# Altium footprint library T_Echo_lite.PcbLib: 21 footprints (part 1 of 2)
Each footprint in its own frame and in the unit in brackets; x right, y up, seen from the top. Pads: shape width x height; smd on the part's side, far side on the other; paste and mask are expansions set on the pad; w line width, h text height; cw(c..) or ccw(c..) is an arc to the next point about the centre after c.
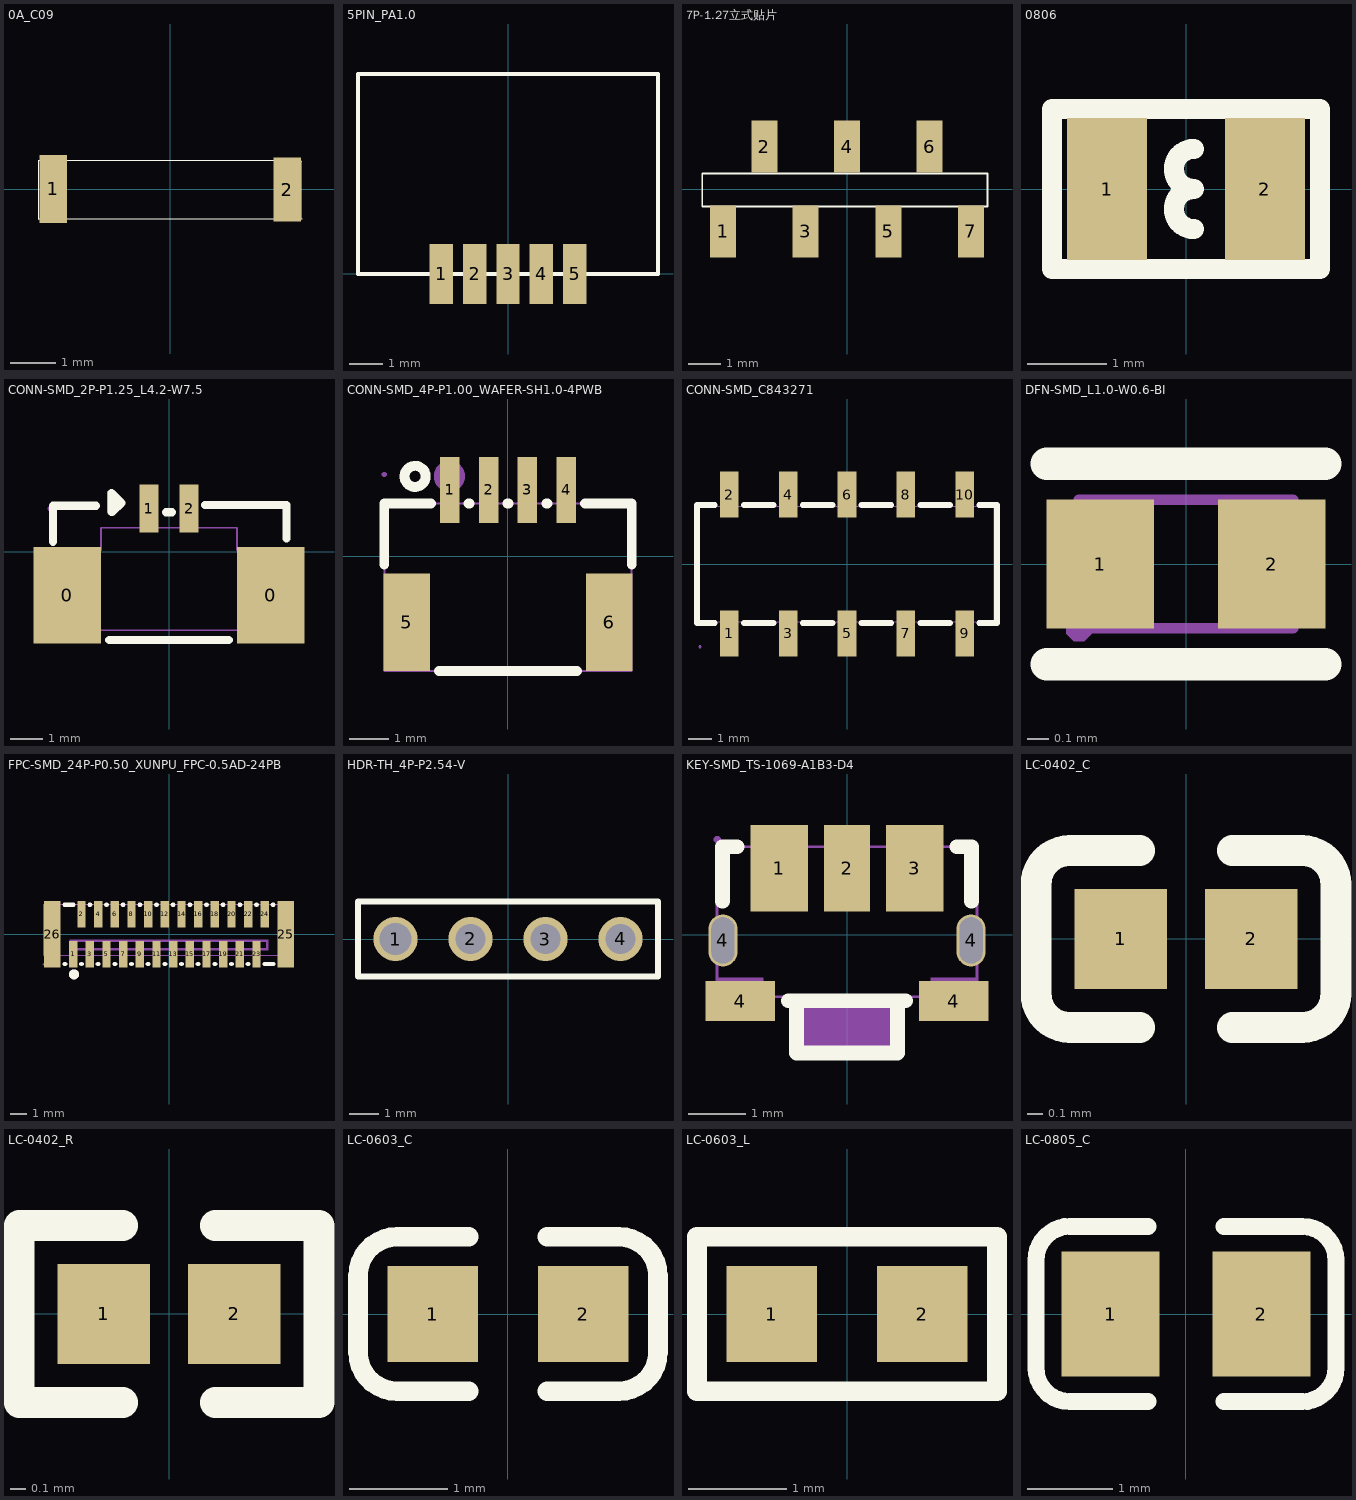
[diagram p0: the footprints below, top view; thin cyan lines are the x and y axes]

## 0A_C09 [mm]
pads (2):
  rect 0.6x1.5 smd mask+0.05: 1(-2.564,0.006)
  rect 0.6x1.4 smd mask+0.05: 2(2.564,-0.006)
Top Overlay:
  lines w0.01: -2.883,-0.653 -2.883,0.634 2.851,0.634 2.88,0.605 2.88,-0.631 2.896,-0.646 -2.875,-0.646 -2.883,-0.653

## 5PIN_PA1.0 [mm]
pads (5):
  rect 0.7x1.8 smd: 1(-2,0) 2(-1,0) 3(0,0) 4(1,0) 5(2,0)
Top Overlay:
  lines w0.127: -4.5,0 -4.5,6 4.5,6 4.5,0 -4.5,0

## 7P-1.27立式贴片 [mm]
pads (7):
  rect 0.8x1.6 smd mask+0.05: 1(-3.81,-1.3) 2(-2.54,1.3) 3(-1.27,-1.3) 4(0,1.3) 5(1.27,-1.3) 6(2.54,1.3) 7(3.81,-1.3)
Top Overlay:
  lines w0.05: -4.445,-0.538 4.318,-0.538 4.318,0.478 -4.445,0.478 -4.445,-0.538

## 0806 [mm]
pads (2):
  rect 1.016x1.8 smd: 1(-1,0) 2(1,0)
Top Overlay:
  lines w0.254: 0.1,-0.508 cw(c0.1,-0.254) 0.1,0 cw(c0.1,0.254) 0.1,0.508 ; -1.7,-1.016 -1.7,1.016 1.624,1.016 1.7,1.016 1.7,-1.016 -1.7,-1.016

## CONN-SMD_2P-P1.25_L4.2-W7.5 [mm]
pads (4):
  rect 2.1x3 smd: 0(-3.175,-1.35) 0(3.175,-1.35)
  rect 0.6x1.5 smd: 1(-0.625,1.35) 2(0.625,1.35)
Top Overlay:
  lines w0.254: -3.62,0.32 -3.62,1.44 -2.28,1.44 ; -1.86,-2.74 1.86,-2.74 ; -1.79,1.83 -1.79,1.241 -1.769,1.241 -1.48,1.53 -1.749,1.8 -1.79,1.84 ; -0.094,1.24 0.094,1.24 ; 1.12,1.46 3.66,1.46 3.66,0.42
Mechanical 6:
  region: -1.92,1.9 -1.92,1.22 -1.36,1.54
Mechanical 15:
  region: -3.66,1.35 -3.661,1.374 -3.696,1.408 -3.744,1.408 -3.779,1.374 -3.78,1.35 -3.779,1.326 -3.744,1.292 -3.696,1.292 -3.661,1.326 -3.66,1.35
  region: -0.775,1.35 -0.475,1.35 -0.475,0.75 -0.775,0.75
  region: 0.475,1.35 0.775,1.35 0.775,0.75 0.475,0.75
  region: -3.72,-0.84 -2.22,-0.84 -2.22,-2.44 -3.72,-2.44
  region: 2.22,-0.84 3.72,-0.84 3.72,-2.44 2.22,-2.44
  lines w0.051: -3.72,-2.44 3.72,-2.44 3.72,0.06 2.12,0.06 2.12,0.76 -2.12,0.76 -2.12,0.06 -3.72,0.06 -3.72,-2.44

## CONN-SMD_4P-P1.00_WAFER-SH1.0-4PWB [mm]
pads (6):
  rect 0.5x1.7 smd paste+0 mask+0.05: 1(-1.5,1.7) 2(-0.5,1.7) 3(0.5,1.7) 4(1.5,1.7)
  rect 1.2x2.5 smd paste+0 mask+0.05: 5(-2.6,-1.7) 6(2.6,-1.7)
Top Overlay:
  circle w0.254: c-2.385,2.05 r0.272
  lines w0.254: -3.175,-0.219 -3.175,1.35 -1.981,1.35 ; -1.769,-2.95 1.769,-2.95 ; -1.019,1.35 -0.981,1.35 ; -0.019,1.35 0.019,1.35 ; 0.981,1.35 1.019,1.35 ; 1.981,1.35 3.175,1.35 3.175,-0.219
Mechanical 6:
  circle w0.4: c-1.505,2.05 r0.2
Mechanical 15:
  region: 2.5,-0.8 2.7,-0.8 2.7,-2.6 2.5,-2.6
  region: 1.4,2.1 1.6,2.1 1.6,1.3 1.4,1.3
  region: 0.4,2.1 0.6,2.1 0.6,1.3 0.4,1.3
  region: -0.6,2.1 -0.4,2.1 -0.4,1.3 -0.6,1.3
  region: -1.6,2.1 -1.4,2.1 -1.4,1.3 -1.6,1.3
  region: -2.7,-0.8 -2.5,-0.8 -2.5,-2.6 -2.7,-2.6
  region: -3.115,2.1 -3.115,2.125 -3.15,2.16 -3.2,2.16 -3.235,2.125 -3.235,2.1 -3.235,2.075 -3.2,2.04 -3.15,2.04 -3.115,2.075 -3.115,2.1
  lines w0.051: -3.175,-2.95 3.175,-2.95 3.175,1.35 -3.175,1.35 -3.175,-2.95

## CONN-SMD_C843271 [mm]
pads (10):
  rect 0.8x2 smd: 1(-5.08,-3) 2(-5.08,3) 3(-2.54,-3) 4(-2.54,3) 5(0,-3) 6(0,3) 7(2.54,-3) 8(2.54,3) 9(5.08,-3) 10(5.08,3)
Top Overlay:
  lines w0.254: -5.711,-2.54 -6.477,-2.54 -6.477,2.54 -5.711,2.54 ; -4.449,-2.54 -3.171,-2.54 ; -4.449,2.54 -3.171,2.54 ; -1.909,-2.54 -0.631,-2.54 ; -1.909,2.54 -0.631,2.54 ; 0.631,-2.54 1.909,-2.54 ; 0.631,2.54 1.909,2.54 ; 3.171,-2.54 4.449,-2.54 ; 3.171,2.54 4.449,2.54 ; 5.711,-2.54 6.477,-2.54 6.477,2.54 5.711,2.54
Mechanical 15:
  region: 4.815,-2.07 5.345,-2.07 5.345,-3.57 4.815,-3.57
  region: 2.275,-2.07 2.805,-2.07 2.805,-3.57 2.275,-3.57
  region: -0.265,-2.07 0.265,-2.07 0.265,-3.57 -0.265,-3.57
  region: -2.805,-2.07 -2.275,-2.07 -2.275,-3.57 -2.805,-3.57
  region: -5.345,-2.07 -4.815,-2.07 -4.815,-3.57 -5.345,-3.57
  region: -5.345,3.57 -4.815,3.57 -4.815,2.07 -5.345,2.07
  region: -2.805,3.57 -2.275,3.57 -2.275,2.07 -2.805,2.07
  region: -0.265,3.57 0.265,3.57 0.265,2.07 -0.265,2.07
  region: 2.275,3.57 2.805,3.57 2.805,2.07 2.275,2.07
  region: 4.815,3.57 5.345,3.57 5.345,2.07 4.815,2.07
  region: -6.29,-3.57 -6.291,-3.546 -6.326,-3.512 -6.374,-3.512 -6.409,-3.546 -6.41,-3.57 -6.409,-3.594 -6.374,-3.628 -6.326,-3.628 -6.291,-3.594 -6.29,-3.57
  lines w0.051: -6.35,-2.5 6.35,-2.5 6.35,2.5 -6.35,2.5 -6.35,-2.5

## DFN-SMD_L1.0-W0.6-BI [mm]
pads (2):
  rect 0.5x0.6 smd paste+0 mask+0.05: 1(-0.4,0) 2(0.4,0)
Top Overlay:
  lines w0.152: -0.65,-0.468 0.65,-0.468 ; -0.65,0.468 0.65,0.468
Mechanical 15:
  region: 0.2,0.25 0.45,0.25 0.45,-0.25 0.2,-0.25
  region: -0.45,0.25 -0.2,0.25 -0.2,-0.25 -0.45,-0.25
  region: -0.44,-0.3 -0.44,-0.275 -0.475,-0.24 -0.525,-0.24 -0.56,-0.275 -0.56,-0.3 -0.56,-0.325 -0.525,-0.36 -0.475,-0.36 -0.44,-0.325 -0.44,-0.3
  lines w0.051: -0.5,-0.3 0.5,-0.3 0.5,0.3 -0.5,0.3 -0.5,-0.3

## FPC-SMD_24P-P0.50_XUNPU_FPC-0.5AD-24PB [mm]
pads (26):
  rect 0.5x1.6 smd paste+0 mask+0.05: 1(-5.75,-1.2) 2(-5.25,1.2) 3(-4.75,-1.2) 4(-4.25,1.2) 5(-3.75,-1.2) 6(-3.25,1.2) 7(-2.75,-1.2) 8(-2.25,1.2) 9(-1.75,-1.2) 10(-1.25,1.2) 11(-0.75,-1.2) 12(-0.249,1.2) 13(0.25,-1.2) 14(0.75,1.2) 15(1.25,-1.2) 16(1.75,1.2) 17(2.25,-1.2) 18(2.75,1.2) 19(3.25,-1.2) 20(3.75,1.2) 21(4.25,-1.2) 22(4.75,1.2) 23(5.25,-1.2) 24(5.75,1.2)
  rect 1x4 smd paste+0 mask+0.05: 25(7,0) 26(-7,0)
Top Overlay:
  circle w0.3: c-5.7,-2.4 r0.15
  lines w0.254: -6.269,-1.778 -6.231,-1.778 ; -6.269,1.778 -5.731,1.778 ; -5.269,-1.778 -5.231,-1.778 ; -4.769,1.778 -4.731,1.778 ; -4.269,-1.778 -4.231,-1.778 ; -3.769,1.778 -3.731,1.778 ; -3.269,-1.778 -3.231,-1.778 ; -2.769,1.778 -2.731,1.778 ; -1.769,1.778 -1.731,1.778 ; -1.269,-1.778 -1.231,-1.778 ; -0.769,1.778 -0.731,1.778 -0.731,1.778 ; -0.269,-1.778 -0.231,-1.778 ; 0.232,1.778 0.269,1.778 ; 0.731,-1.778 0.769,-1.778 ; 1.231,1.778 1.269,1.778 ; 1.731,-1.778 1.769,-1.778 ; 2.231,1.778 2.269,1.778 ; 2.731,-1.778 2.769,-1.778 ; 3.231,1.778 3.269,1.778 ; 3.731,-1.778 3.769,-1.778 ; 4.231,1.778 4.269,1.778 ; 4.731,-1.778 4.769,-1.778 ; 5.231,1.778 5.269,1.778 ; 5.731,-1.778 6.269,-1.778 ; 6.231,1.778 6.269,1.778 ; -2.269,-1.778 -2.231,-1.778 -2.269,-1.778
Mechanical 6:
  circle w0.3: c-5.7,-2.4 r0.15
  region: -5.969,-0.572 -5.969,-0.953 5.969,-0.953 5.969,-0.318 -5.969,-0.318 -5.969,-0.445 5.842,-0.445 5.842,-0.826 -5.842,-0.826 -5.842,-0.572
Mechanical 15:
  region: -7.44,-1.8 -7.44,-1.775 -7.475,-1.74 -7.525,-1.74 -7.56,-1.775 -7.56,-1.8 -7.56,-1.825 -7.525,-1.86 -7.475,-1.86 -7.44,-1.825 -7.44,-1.8
  region: 5.65,1.8 5.85,1.8 5.85,0.8 5.65,0.8
  region: 5.15,-0.8 5.35,-0.8 5.35,-1.8 5.15,-1.8
  region: 4.65,1.8 4.85,1.8 4.85,0.8 4.65,0.8
  region: 4.15,-0.8 4.35,-0.8 4.35,-1.8 4.15,-1.8
  region: 3.65,1.8 3.85,1.8 3.85,0.8 3.65,0.8
  region: 3.15,-0.8 3.35,-0.8 3.35,-1.8 3.15,-1.8
  region: 2.65,1.8 2.85,1.8 2.85,0.8 2.65,0.8
  region: 2.15,-0.8 2.35,-0.8 2.35,-1.8 2.15,-1.8
  region: 1.65,1.8 1.85,1.8 1.85,0.8 1.65,0.8
  region: 1.15,-0.8 1.35,-0.8 1.35,-1.8 1.15,-1.8
  region: 0.65,1.8 0.85,1.8 0.85,0.8 0.65,0.8
  region: 0.15,-0.8 0.35,-0.8 0.35,-1.8 0.15,-1.8
  region: -0.349,1.8 -0.149,1.8 -0.149,0.8 -0.349,0.8
  region: -0.85,-0.8 -0.65,-0.8 -0.65,-1.8 -0.85,-1.8
  region: -1.85,-0.8 -1.65,-0.8 -1.65,-1.8 -1.85,-1.8
  region: -1.35,1.8 -1.15,1.8 -1.15,0.8 -1.35,0.8
  region: -2.85,-0.8 -2.65,-0.8 -2.65,-1.8 -2.85,-1.8
  region: -2.35,1.8 -2.15,1.8 -2.15,0.8 -2.35,0.8
  region: -3.85,-0.8 -3.65,-0.8 -3.65,-1.8 -3.85,-1.8
  region: -3.35,1.8 -3.15,1.8 -3.15,0.8 -3.35,0.8
  region: -4.35,1.8 -4.15,1.8 -4.15,0.8 -4.35,0.8
  region: -4.85,-0.8 -4.65,-0.8 -4.65,-1.8 -4.85,-1.8
  region: -5.85,-0.8 -5.65,-0.8 -5.65,-1.8 -5.85,-1.8
  region: -5.35,1.8 -5.15,1.8 -5.15,0.8 -5.35,0.8
  region: 6.8,1.8 7.2,1.8 7.2,-1.8 6.8,-1.8
  region: -7.2,1.8 -6.8,1.8 -6.8,-1.8 -7.2,-1.8
  lines w0.051: -7.5,-1.259 -7.5,1.821 7.5,1.821 7.5,-1.259 -7.5,-1.259

## HDR-TH_4P-P2.54-V [mm]
pads (4):
  round 1.5 hole 1.1: 1(-3.81,0)
  round 1.5 hole 1: 2(-1.27,0) 3(1.27,0) 4(3.81,0)
Top Overlay:
  lines w0.203: -5.08,-1.27 -5.08,1.27 -3.175,1.27 5.08,1.27 5.08,-1.27 -5.08,-1.27

## KEY-SMD_TS-1069-A1B3-D4 [mm]
pads (7):
  rect 1x1.5 smd paste-100 mask+0.051: 1(-1.175,1.15) 3(1.175,1.15)
  rect 0.8x1.5 smd paste-100 mask+0.051: 2(0,1.15)
  oval 0.5x0.9 hole 0.4 slot 0.8 at 90 deg: 4(-2.15,-0.1) 4(2.15,-0.1)
  rect 1.2x0.7 smd paste-100 mask+0.051: 4(-1.85,-1.15) 4(1.85,-1.15)
Top Overlay:
  lines w0.254: -2.159,0.581 -2.159,1.524 -1.906,1.524 ; -1.019,-1.143 1.019,-1.143 ; -0.875,-1.143 -0.875,-2.05 0.875,-2.05 0.875,-1.143 ; 1.906,1.524 2.159,1.524 2.159,0.581
Top Paste:
  drawing of 7 lines, arcs and shapes, not listed
Mechanical 6:
  region: -0.889,-2.032 -0.889,-1.143 0.889,-1.143 0.889,-2.032
Mechanical 15:
  region: 2.05,0.25 2.25,0.25 2.25,-0.45 2.05,-0.45
  region: -2.25,0.25 -2.05,0.25 -2.05,-0.45 -2.25,-0.45
  region: 2.25,-0.75 2.25,-1.05 1.45,-1.05 1.45,-0.75
  region: -1.45,-0.75 -1.45,-1.05 -2.25,-1.05 -2.25,-0.75
  region: -0.25,1.65 0.25,1.65 0.25,0.65 -0.25,0.65
  region: -1.5,1.65 -0.85,1.65 -0.85,0.65 -1.5,0.65
  region: 0.85,1.65 1.5,1.65 1.5,0.65 0.85,0.65
  region: -2.19,1.65 -2.191,1.674 -2.226,1.709 -2.275,1.709 -2.31,1.675 -2.31,1.65 -2.31,1.626 -2.275,1.591 -2.226,1.591 -2.191,1.625 -2.19,1.65
  lines w0.051: -2.25,-1.076 -0.875,-1.076 -0.875,-1.976 0.875,-1.976 0.875,-1.076 2.25,-1.076 2.25,1.524 -2.25,1.524 -2.25,-1.076

## LC-0402_C [mm]
pads (2):
  rect 0.6x0.65 smd mask+0.051: 1(-0.425,0) 2(0.425,0)
Top Overlay:
  lines w0.2: -0.755,-0.575 cw(c-0.755,-0.355) -0.975,-0.355 -0.975,0.355 cw(c-0.755,0.355) -0.755,0.575 ; -0.75,-0.575 -0.3,-0.575 ; -0.75,0.575 -0.3,0.575 ; 0.3,-0.575 0.75,-0.575 ; 0.3,0.575 0.75,0.575 ; 0.755,-0.575 ccw(c0.755,-0.355) 0.975,-0.355 0.975,0.355 ccw(c0.755,0.355) 0.755,0.575
3D body "0402 SMD Capacitor.step": height 0.2, standoff 0, extent -0.483,-0.3 0.517,0.3

## LC-0402_R [mm]
pads (2):
  rect 0.6x0.65 smd mask+0.051: 1(-0.425,0) 2(0.425,0)
Top Overlay:
  lines w0.2: -0.3,-0.575 -0.975,-0.575 -0.975,0.575 -0.3,0.575 ; 0.3,-0.575 0.975,-0.575 0.975,0.575 0.3,0.575
3D body "User Library-RES_1005-0402.STEP": height 0.41, standoff 0, extent -0.575,-0.275 0.575,0.275

## LC-0603_C [mm]
pads (2):
  rect 0.93x0.98 smd: 1(-0.77,0) 2(0.77,0)
Top Overlay:
  lines w0.2: -0.4,-0.79 -1.135,-0.79 cw(c-1.135,-0.39) -1.535,-0.39 -1.535,0.39 cw(c-1.135,0.39) -1.135,0.79 -0.4,0.79 ; 0.4,-0.79 1.135,-0.79 ccw(c1.135,-0.39) 1.535,-0.39 1.535,0.39 ccw(c1.135,0.39) 1.135,0.79 0.4,0.79
3D body "User Library-0603 SMD Capacitor.STEP": height 0.3, standoff 0, extent -0.8,-0.4 0.8,0.4

## LC-0603_L [mm]
pads (2):
  rect 0.93x0.98 smd: 1(-0.77,0) 2(0.77,0)
Top Overlay:
  lines w0.2: -1.535,-0.79 1.535,-0.79 1.535,0.79 -1.535,0.79 -1.535,-0.79
3D body "L0603.STEP": height 0.46, standoff -0.01, extent -0.824,-0.412 0.824,0.413

## LC-0805_C [mm]
pads (2):
  rect 1.16x1.47 smd: 1(-0.89,0) 2(0.89,0)
Top Overlay:
  lines w0.2: -0.45,-1.035 -1.37,-1.035 cw(c-1.37,-0.635) -1.77,-0.635 -1.77,0.635 cw(c-1.37,0.635) -1.37,1.035 -0.45,1.035 ; 0.45,-1.035 1.37,-1.035 ccw(c1.37,-0.635) 1.77,-0.635 1.77,0.635 ccw(c1.37,0.635) 1.37,1.035 0.45,1.035
3D body "User Library-0805 SMD Capacitor.STEP": height 0.77, standoff -0.01, extent -0.999,-0.625 1.001,0.625